# Altium schematic symbol library Level_shifter.SchLib: 1 symbol
Pins are listed as number, name and electrical type; pins without a type are passive.

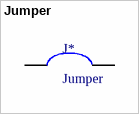
[diagram p0: symbol Jumper]

## Jumper
designator J*
Wire link
pins: 1, 2